# EAGLE library part S2525F8‐GL‐RTK (library skytraq)
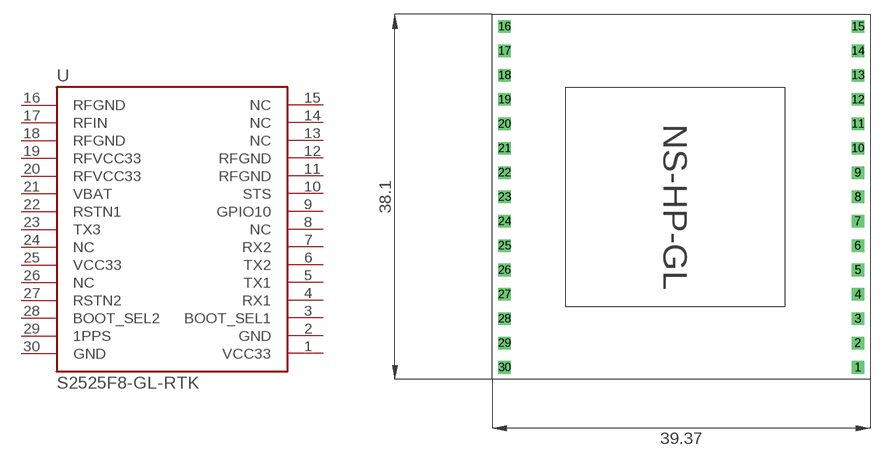
[diagram p0: symbol with the pads of NS-HP-GL2; footprint NS-HP-GL2]

Designator prefix -

## S2525F8‐GL‐RTK  [NS-HP-GL2]
1  VCC33
2  GND
3  BOOT_SEL1
4  RX1
5  TX1
6  TX2
7  RX2
8  NC
9  GPIO10
10  STS
11  RFGND
12  RFGND
13  NC
14  NC
15  NC
16  RFGND
17  RFIN
18  RFGND
19  RFVCC33
20  RFVCC33
21  VBAT
22  RSTN1
23  TX3
24  NC
25  VCC33
26  NC
27  RSTN2
28  BOOT_SEL2
29  1PPS
30  GND

## Footprint NS-HP-GL2 (pad centres in mm)
drill 0.8 square: 1 -8.89,0; 2 -8.89,2.54; 3 -8.89,5.08; 4 -8.89,7.62; 5 -8.89,10.16; 6 -8.89,12.7; 7 -8.89,15.24; 8 -8.89,17.78; 9 -8.89,20.32; 10 -8.89,22.86; 11 -8.89,25.4; 12 -8.89,27.94; 13 -8.89,30.48; 14 -8.89,33.02; 15 -8.89,35.56; 16 -45.72,35.56; 17 -45.72,33.02; 18 -45.72,30.48; 19 -45.72,27.94; 20 -45.72,25.4; 21 -45.72,22.86; 22 -45.72,20.32; 23 -45.72,17.78; 24 -45.72,15.24; 25 -45.72,12.7; 26 -45.72,10.16; 27 -45.72,7.62; 28 -45.72,5.08; 29 -45.72,2.54; 30 -45.72,0